# Altium footprint library VQFN40P800X800X90-65N.PcbLib: 1 footprints
Each footprint in its own frame and in the unit in brackets; x right, y up, seen from the top. Pads: shape width x height; smd on the part's side, far side on the other; paste and mask are expansions set on the pad; w line width, h text height; cw(c..) or ccw(c..) is an arc to the next point about the centre after c.
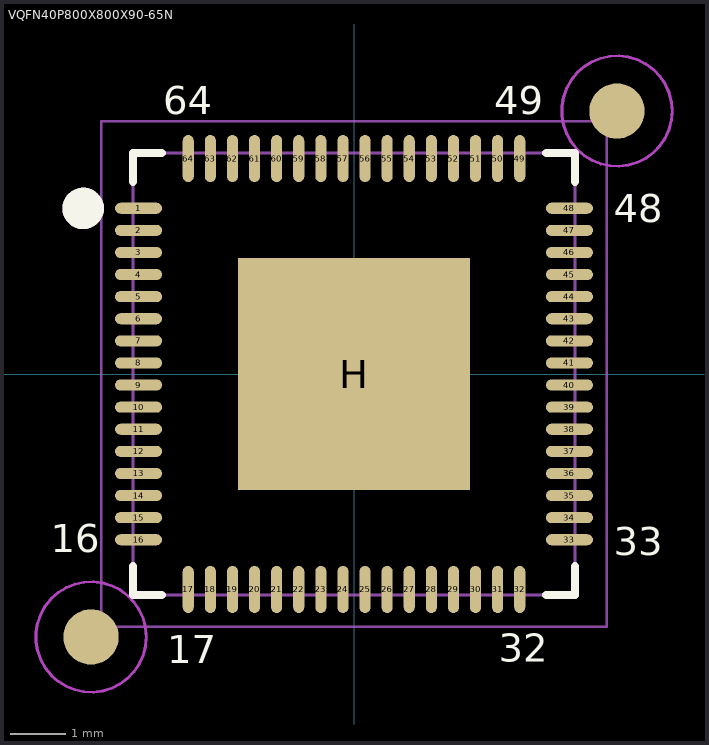
[diagram p0: the footprint, top view; thin cyan lines are the x and y axes]

## VQFN40P800X800X90-65N [mm] "QFN, 64-Leads, Body 8.00x8.00mm, Pitch 0.40mm, Thermal Pad 4.20x4.20mm, IPC Medium Density"
height 0.9
pads (67):
  oval 0.85x0.2 smd mask+0.051: 1(-3.9,3) 2(-3.9,2.6) 3(-3.9,2.2) 4(-3.9,1.8) 5(-3.9,1.4) 6(-3.9,1) 7(-3.9,0.6) 8(-3.9,0.2) 9(-3.9,-0.2) 10(-3.9,-0.6) 11(-3.9,-1) 12(-3.9,-1.4) 13(-3.9,-1.8) 14(-3.9,-2.2) 15(-3.9,-2.6) 16(-3.9,-3) 33(3.9,-3) 34(3.9,-2.6) 35(3.9,-2.2) 36(3.9,-1.8) 37(3.9,-1.4) 38(3.9,-1) 39(3.9,-0.6) 40(3.9,-0.2) 41(3.9,0.2) 42(3.9,0.6) 43(3.9,1) 44(3.9,1.4) 45(3.9,1.8) 46(3.9,2.2) 47(3.9,2.6) 48(3.9,3)
  oval 0.2x0.85 smd mask+0.051: 17(-3,-3.9) 18(-2.6,-3.9) 19(-2.2,-3.9) 20(-1.8,-3.9) 21(-1.4,-3.9) 22(-1,-3.9) 23(-0.6,-3.9) 24(-0.2,-3.9) 25(0.2,-3.9) 26(0.6,-3.9) 27(1,-3.9) 28(1.4,-3.9) 29(1.8,-3.9) 30(2.2,-3.9) 31(2.6,-3.9) 32(3,-3.9) 49(3,3.9) 50(2.6,3.9) 51(2.2,3.9) 52(1.8,3.9) 53(1.4,3.9) 54(1,3.9) 55(0.6,3.9) 56(0.2,3.9) 57(-0.2,3.9) 58(-0.6,3.9) 59(-1,3.9) 60(-1.4,3.9) 61(-1.8,3.9) 62(-2.2,3.9) 63(-2.6,3.9) 64(-3,3.9)
  rect 4.2x4.2 smd paste-5 mask+0.051: H(0,0)
  round 1 smd paste-2 mask+0.5: ""(-4.76,-4.76) ""(4.76,4.76)
Top Overlay:
  circle w0.5: c-4.902,2.997 r0.125
  lines w0.152: -4,-3.476 -4,-4 -3.476,-4 ; -4,3.476 -4,4 -3.476,4 ; 3.476,-4 4,-4 4,-3.476 ; 3.476,4 4,4 4,3.476
  text "64" at -3.454,4.699 h0.51
  text "49" at 2.54,4.699 h0.51
  text "48" at 4.699,2.743 h0.51
  text "33" at 4.699,-3.277 h0.51
  text "32" at 2.616,-5.207 h0.51
  text "17" at -3.378,-5.232 h0.51
  text "16" at -5.486,-3.226 h0.51
Top Paste:
  rectangle: 0.15,-1.95 1.95,-0.15
  rectangle: -1.95,-1.95 -0.15,-0.15
  rectangle: -1.95,0.15 -0.15,1.95
  rectangle: 0.15,0.15 1.95,1.95
Keep-Out Layer:
  circle w0.05: c-4.76,-4.76 r1
  circle w0.05: c4.76,4.76 r1
Mechanical 13:
  circle w0.5: c-4.902,2.997 r0.125
  lines w0.05: -4,-4 -4,4 4,4 4,-4 -4,-4
  text "64" at -3.454,4.699 h0.51
  text "49" at 2.54,4.699 h0.51
  text "48" at 4.699,2.743 h0.51
  text "33" at 4.699,-3.277 h0.51
  text "32" at 2.616,-5.207 h0.51
  text "17" at -3.378,-5.232 h0.51
  text "16" at -5.486,-3.226 h0.51
Mechanical 15:
  circle w0.05: c-4.76,-4.76 r1
  circle w0.05: c4.76,4.76 r1
  lines w0.05: -4.575,-4.575 -4.575,4.575 4.575,4.575 4.575,-4.575 -4.575,-4.575
  lines w0.1: -0.5,0 0.5,0 ; 0,-0.5 0,0.5
3D body "VQFN40P800X800X90-65N.step": height 0.9, standoff 0, extent -4.1,-4.05 4,4.05